# EAGLE library part 1ZX16XLM13609 (library rezzonics)
MEC Navimec 1ZB/1ZCS Illuminated Module 4x1ZB16DLM13609 + 1ZC16LM11809 + 5x 5GTH9/LEDs CAP TACTILE 1/4 RING FRSTD WHITE + CAP TACTILE ROUND FROSTED WHITE + SWITCH TACTILE SPST-NO 0.05A 24V
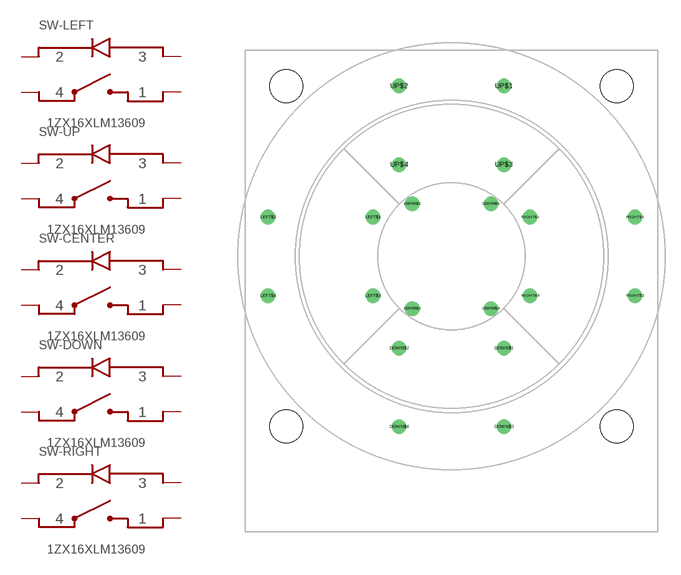
[diagram p19: symbol with the pads of 1ZW0913611806; footprint 1ZW0913611806]

Designator prefix SW; gates -CENTER=5G9TH-LED -UP=5G9TH-LED -DOWN=5G9TH-LED -LEFT=5G9TH-LED -RIGHT=5G9TH-LED

## 1ZX16XLM13609  [1ZW0913611806]
CENTER$1  -CENTER:1  pas
CENTER$2  -CENTER:2  pas
CENTER$3  -CENTER:3  pas
CENTER$4  -CENTER:4  pas
DOWN$1  -DOWN:1  pas
DOWN$2  -DOWN:2  pas
DOWN$3  -DOWN:3  pas
DOWN$4  -DOWN:4  pas
LEFT$1  -LEFT:1  pas
LEFT$2  -LEFT:2  pas
LEFT$3  -LEFT:3  pas
LEFT$4  -LEFT:4  pas
RIGHT$1  -RIGHT:1  pas
RIGHT$2  -RIGHT:2  pas
RIGHT$3  -RIGHT:3  pas
RIGHT$4  -RIGHT:4  pas
UP$1  -UP:1  pas
UP$2  -UP:2  pas
UP$3  -UP:3  pas
UP$4  -UP:4  pas

## Footprint 1ZW0913611806 (pad centres in mm)
drill 0.9: CENTER$1 -3.81,5.08; CENTER$2 -3.81,-5.08; CENTER$3 3.81,5.08; CENTER$4 3.81,-5.08; DOWN$1 5.08,-8.89; DOWN$2 -5.08,-8.89; DOWN$3 5.08,-16.51; DOWN$4 -5.08,-16.51; LEFT$1 -7.62,3.81; LEFT$2 -17.78,3.81; LEFT$3 -7.62,-3.81; LEFT$4 -17.78,-3.81; RIGHT$1 17.78,3.81; RIGHT$2 7.62,3.81; RIGHT$3 17.78,-3.81; RIGHT$4 7.62,-3.81; UP$1 5.08,16.51; UP$2 -5.08,16.51; UP$3 5.08,8.89; UP$4 -5.08,8.89
hole 3.2 at 16,16.5
hole 3.2 at -16,16.5
hole 3.2 at 16,-16.5
hole 3.2 at -16,-16.5